# Altium footprint library pcblib.PcbLib: 3 footprints
Each footprint in its own frame and in the unit in brackets; x right, y up, seen from the top. Pads: shape width x height; smd on the part's side, far side on the other; paste and mask are expansions set on the pad; w line width, h text height; cw(c..) or ccw(c..) is an arc to the next point about the centre after c.
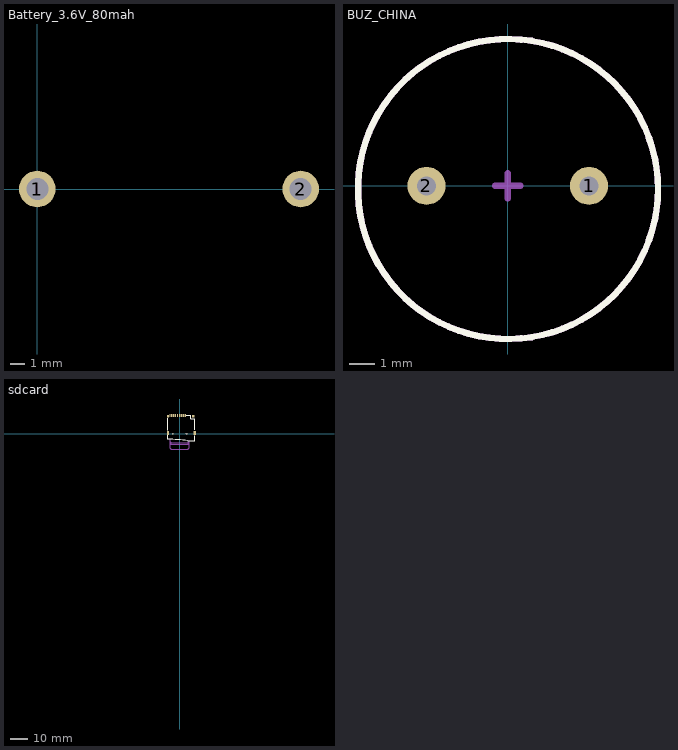
[diagram p0: the footprints below, top view; thin cyan lines are the x and y axes]

## Battery_3.6V_80mah [mm]
pads (2):
  round 2.5 hole 1.5: 1(0,0) 2(18,0)
3D body: height 17.5, standoff 2.5, extent 0.3,-7.5 18,7.5

## BUZ_CHINA [mil] "buzzer"
height 178
pads (2):
  round 60 hole 30: 1(127.95,0) 2(-127.95,0)
Top Overlay:
  circle w10: c0.39,-5 r236.22
Mechanical 15:
  circle w10: c0.39,-5 r236.22
  lines w10: -20,0 20,0 ; 0,-20 0,20
Mechanical 17:
  text "d" at -10,15 h60
Mechanical 19:
  text "-" at -5,15 h60
3D body "CircuitWorks-BUZZER (SELFGEN).STEP": height 295.28, standoff -78.74, extent -234.61,-235.95 237.84,235.95

## sdcard [mm]
pads (15):
  round 1 hole 1: 1(-4,0) 1(4,0)
  rect 0.7x1.6 smd: 1(3.2,10.5) 2(2.1,10.5) 3(1,10.5) 4(-0.1,10.5) 6(-2.3,10.5) 7(-3.4,10.5) 8(-4.5,10.5) CD(-5.6,10.5)
  rect 0.7x1.6 smd mask+0.102: 5(-1.2,10.5)
  rect 1.2x2.2 smd: H(-6.8,0.4) H(8.7,0.4)
  rect 1.6x1.6 smd: H(7.8,10)
  rect 1.2x1.4 smd: S0(-6.8,10)
Top Overlay:
  lines w0.254: -6.825,-1.074 -6.825,-3.3 cw(c-6.112,-82.329) 4.645,-4.032 8.745,-4.032 8.745,-1.263 ; -6.825,1.912 -6.807,8.89 ; 3.927,10.5 6.477,10.5 6.477,8.687 8.745,8.687 8.745,2.134
Mechanical 8:
  lines w0.254: -5.57,-5.232 ccw(c-4.67,-5.232) -4.67,-6.132 4.53,-6.132 ccw(c4.53,-5.232) 5.43,-5.232 ; -5.57,-4.332 ccw(c-4.67,-4.332) -4.67,-5.232 4.53,-5.232 ccw(c4.53,-4.332) 5.43,-4.332 ; -5.57,-3.346 -5.57,-8.032 ccw(c-4.67,-8.032) -4.67,-8.932 4.53,-8.932 ccw(c4.53,-8.032) 5.43,-8.032 5.43,-4.032
3D body "sdcard.step": height 2.2, standoff -0.5, extent -7.112,-6.162 8.988,11.038